# Altium schematic symbol library LTC1779.SchLib: 1 symbol
Pins are listed as number, name and electrical type; pins without a type are passive.

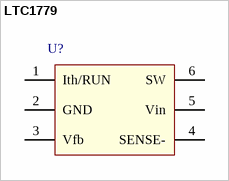
[diagram p0: symbol LTC1779]

## LTC1779
designator U?  (value not drawn)
pins: 1 Ith/RUN, 2 GND (power), 3 Vfb, 4 SENSE-, 5 Vin, 6 SW